# EAGLE library part 6569 (library commodore)
This lib is created by Ruud Baltissen.
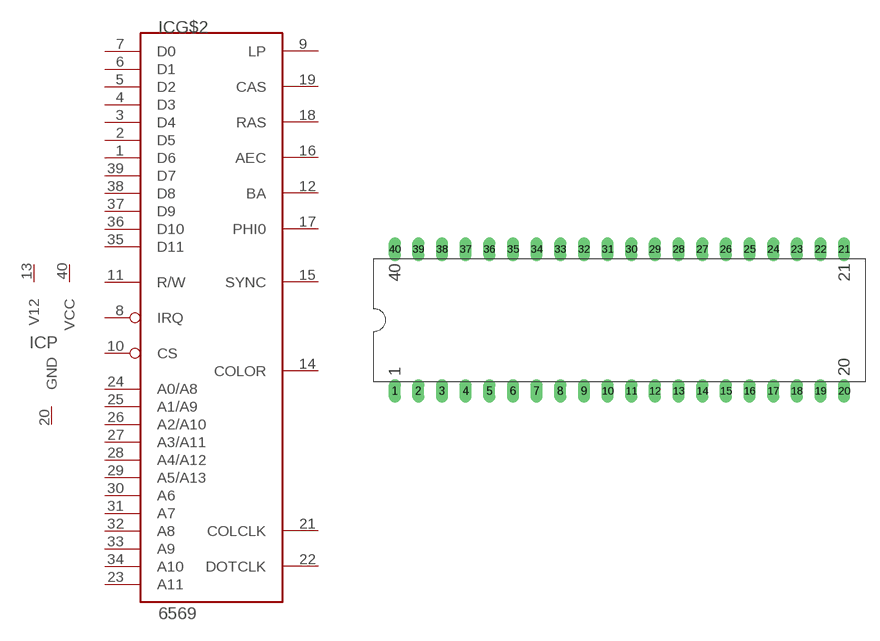
[diagram p22: symbol with the pads of DIP40; footprint DIP40]

Designator prefix IC; gates P=PWR3 G$2=6569

## 6569  [DIP40]
1  G$2:D6  hiz
2  G$2:D5  hiz
3  G$2:D4  hiz
4  G$2:D3  hiz
5  G$2:D2  hiz
6  G$2:D1  hiz
7  G$2:D0  hiz
8  G$2:IRQ  oc
9  G$2:LP  in
10  G$2:CS  in
11  G$2:R/W  in
12  G$2:BA  out
13  P:V12  pwr
14  G$2:COLOR  out
15  G$2:SYNC  out
16  G$2:AEC  out
17  G$2:PHI0  out
18  G$2:RAS  out
19  G$2:CAS  out
20  P:GND  pwr
21  G$2:COLCLK  in
22  G$2:DOTCLK  in
23  G$2:A11  in
24  G$2:A0/A8
25  G$2:A1/A9
26  G$2:A2/A10
27  G$2:A3/A11
28  G$2:A4/A12
29  G$2:A5/A13
30  G$2:A6
31  G$2:A7
32  G$2:A8  in
33  G$2:A9  in
34  G$2:A10  in
35  G$2:D11  hiz
36  G$2:D10  hiz
37  G$2:D9  hiz
38  G$2:D8  hiz
39  G$2:D7  hiz
40  P:VCC  pwr

## Footprint DIP40 (pad centres in mm)
drill 0.61 pad 1.27 long: 1 -24.13,-7.62; 2 -21.59,-7.62; 3 -19.05,-7.62; 4 -16.51,-7.62; 5 -13.97,-7.62; 6 -11.43,-7.62; 7 -8.89,-7.62; 8 -6.35,-7.62; 9 -3.81,-7.62; 10 -1.27,-7.62; 11 1.27,-7.62; 12 3.81,-7.62; 13 6.35,-7.62; 14 8.89,-7.62; 15 11.43,-7.62; 16 13.97,-7.62; 17 16.51,-7.62; 18 19.05,-7.62; 19 21.59,-7.62; 20 24.13,-7.62; 21 24.13,7.62; 22 21.59,7.62; 23 19.05,7.62; 24 16.51,7.62; 25 13.97,7.62; 26 11.43,7.62; 27 8.89,7.62; 28 6.35,7.62; 29 3.81,7.62; 30 1.27,7.62; 31 -1.27,7.62; 32 -3.81,7.62; 33 -6.35,7.62; 34 -8.89,7.62; 35 -11.43,7.62; 36 -13.97,7.62; 37 -16.51,7.62; 38 -19.05,7.62; 39 -21.59,7.62; 40 -24.13,7.62